# EAGLE library part AVRISP (library bschulz)
AVR ISP HEADER Standard 6 pin header for AVR programming
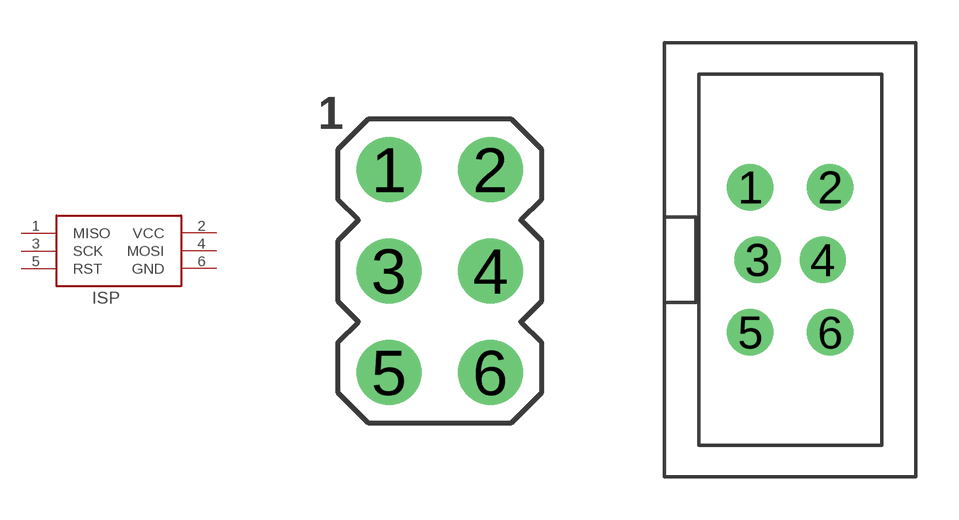
[diagram p31: symbol with the pads of AVRISP; footprints AVRISP, AVRISP-BOX]

Designator prefix ISP

## AVRISP-6  [AVRISP]
1  MISO  in
2  VCC  pwr
3  SCK  out
4  MOSI  out
5  RST  out
6  GND  pwr

## AVRISP-BOX  [AVRISP-BOX]
Pads as for AVRISP

## AVRISP  [2X3_SMD]
Pads as for AVRISP

## AVRISP1.27MM  [2X3_1.27]
Pads as for AVRISP

## Footprint AVRISP (pad centres in mm)
drill 1.02 pad 1.626: 1 -1.27,2.54; 2 1.27,2.54; 3 -1.27,0; 4 1.27,0; 5 -1.27,-2.54; 6 1.27,-2.54

## Footprint AVRISP-BOX (pad centres in mm)
drill 0.9 pad 1.626: 1 -1.397,2.54; 2 1.397,2.54; 3 -1.143,0; 4 1.143,0; 5 -1.397,-2.54; 6 1.397,-2.54

## Footprint 2X3_SMD (pad centres in mm)
smd 1.27 x 3.68: 1 -2.54,-2.22; 2 -2.54,2.22; 3 0,-2.22; 4 0,2.22; 5 2.54,-2.22; 6 2.54,2.22

## Footprint 2X3_1.27 (pad centres in mm)
drill 0.7 pad 1.05: 1 -1.27,-0.635; 2 -1.27,0.635; 3 0,-0.635; 4 0,0.635; 5 1.27,-0.635; 6 1.27,0.635